# Altium footprint library PCB - BATTERY HOLDER - KEYSTONE 254.PCBLIB: 1 footprints
Each footprint in its own frame and in the unit in brackets; x right, y up, seen from the top. Pads: shape width x height; smd on the part's side, far side on the other; paste and mask are expansions set on the pad; w line width, h text height; cw(c..) or ccw(c..) is an arc to the next point about the centre after c.
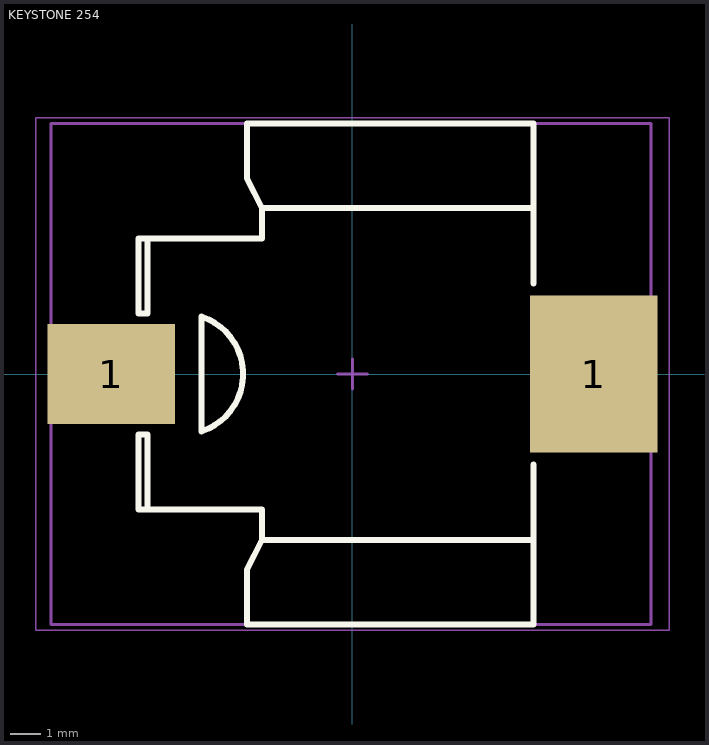
[diagram p0: the footprint, top view; thin cyan lines are the x and y axes]

## KEYSTONE 254 [mm] "16-19mm SM Battery Clip"
height 16.59
pads (2):
  rect 4.24x3.3 smd: 1(-8,0)
  rect 4.24x5.2 smd: 1(8,0)
Top Overlay:
  lines w0.2: -6.8,-4.5 -6.8,-2 -7.1,-2 -7.1,-4.5 -3,-4.5 -3,-5.5 ; -6.8,4.5 -6.8,2 -7.1,2 -7.1,4.5 -3,4.5 -3,5.5 ; 6,-3 6,-5.5 ; 6,3 6,5.5 ; -3,-5.5 -3.5,-6.5 -3.5,-8.3 6,-8.3 6,-5.5 ; -3,-5.5 6,-5.5 ; -3,5.5 -3.5,6.5 -3.5,8.3 6,8.3 6,5.5 ; -3,5.5 6,5.5 ; -5,-1.9 ccw(c-5.625,0) -5,1.9 -5,-1.9
Mechanical 13:
  lines w0.1: -10,-8.3 -10,8.3 9.9,8.3 9.9,-8.3 -10,-8.3
Mechanical 15:
  lines w0.05: -10.5,-8.5 -10.5,8.5 10.5,8.5 10.5,-8.5 -10.5,-8.5
  lines w0.1: -0.5,0 0.5,0 ; 0,-0.5 0,0.5
3D body "Keystone - 254.step": height 17.14, standoff 0, extent -9.949,-8.305 9.933,8.305